# Altium footprint library Miscellaneous Connectors.PcbLib: 182 footprints (part 11 of 12)
Each footprint in its own frame and in the unit in brackets; x right, y up, seen from the top. Pads: shape width x height; smd on the part's side, far side on the other; paste and mask are expansions set on the pad; w line width, h text height; cw(c..) or ccw(c..) is an arc to the next point about the centre after c.
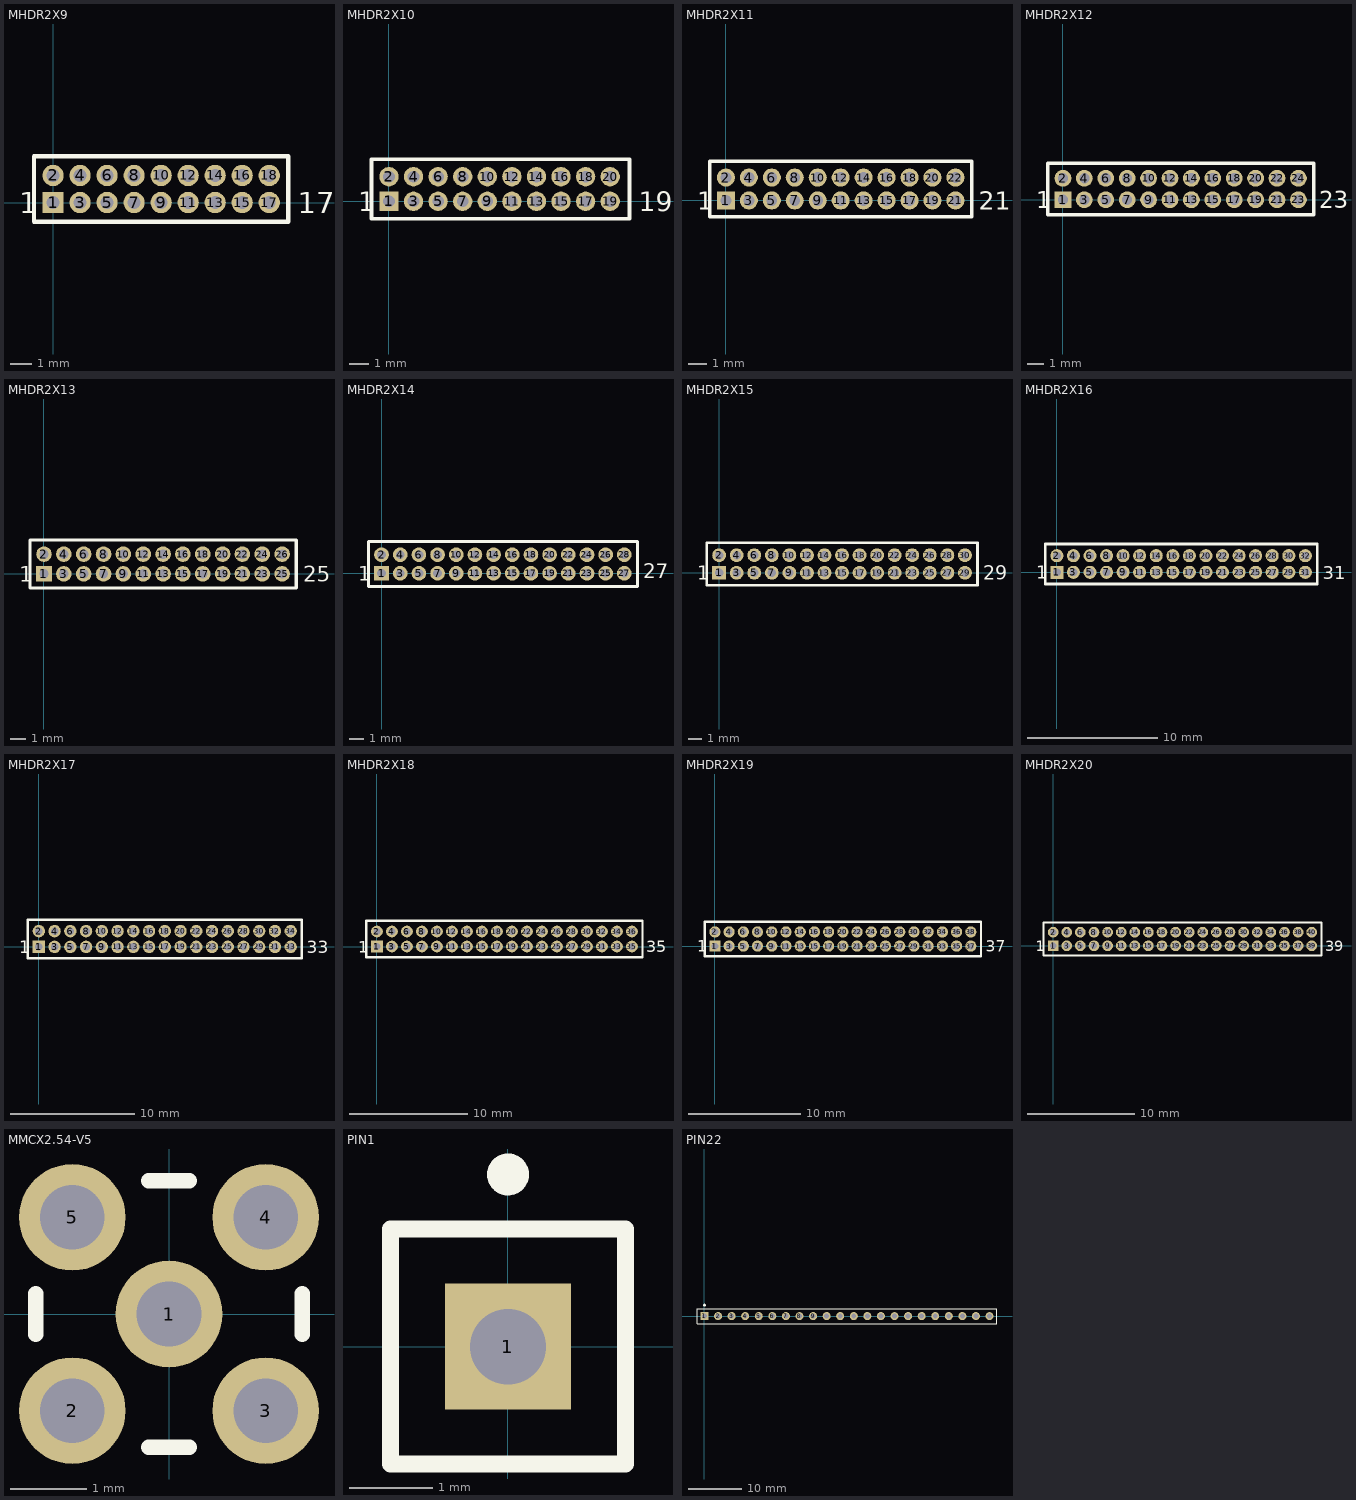
[diagram p10: the footprints below, top view; thin cyan lines are the x and y axes]

## MHDR2X9 [mm] "Connector; Header; 9x2 Position"
pads (18):
  rect 1x1 hole 0.6: 1(0,0)
  round 1 hole 0.6: 2(0,1.27) 3(1.27,0) 4(1.27,1.27) 5(2.54,0) 6(2.54,1.27) 7(3.81,0) 8(3.81,1.27) 9(5.08,0) 10(5.08,1.27) 11(6.35,0) 12(6.35,1.27) 13(7.62,0) 14(7.62,1.27) 15(8.89,0) 16(8.89,1.27) 17(10.16,0) 18(10.16,1.27)
Top Overlay:
  lines w0.2: -0.9,-0.9 11.06,-0.9 11.06,2.17 -0.9,2.17 -0.9,-0.9
  text "1" at -1.6,-0.508 h1
  text "17" at 11.5,-0.508 h1

## MHDR2X10 [mm] "Connector; Header; 10x2 Position"
pads (20):
  rect 1x1 hole 0.6: 1(0,0)
  round 1 hole 0.6: 2(0,1.27) 3(1.27,0) 4(1.27,1.27) 5(2.54,0) 6(2.54,1.27) 7(3.81,0) 8(3.81,1.27) 9(5.08,0) 10(5.08,1.27) 11(6.35,0) 12(6.35,1.27) 13(7.62,0) 14(7.62,1.27) 15(8.89,0) 16(8.89,1.27) 17(10.16,0) 18(10.16,1.27) 19(11.43,0) 20(11.43,1.27)
Top Overlay:
  lines w0.2: -0.9,-0.9 -0.9,2.17 12.43,2.17 12.43,-0.9 -0.9,-0.9
  text "19" at 12.9,-0.508 h1
  text "1" at -1.6,-0.508 h1

## MHDR2X11 [mm] "Connector; Header; 11x2 Position"
pads (22):
  rect 1x1 hole 0.6: 1(0,0)
  round 1 hole 0.6: 2(0,1.27) 3(1.27,0) 4(1.27,1.27) 5(2.54,0) 6(2.54,1.27) 7(3.81,0) 8(3.81,1.27) 9(5.08,0) 10(5.08,1.27) 11(6.35,0) 12(6.35,1.27) 13(7.62,0) 14(7.62,1.27) 15(8.89,0) 16(8.89,1.27) 17(10.16,0) 18(10.16,1.27) 19(11.43,0) 20(11.43,1.27) 21(12.7,0) 22(12.7,1.27)
Top Overlay:
  lines w0.2: -0.9,-0.9 13.6,-0.9 13.6,2.17 -0.9,2.17 -0.9,-0.9
  text "1" at -1.6,-0.508 h1
  text "21" at 14,-0.508 h1

## MHDR2X12 [mm] "Connector; Header; 12x2 Position"
pads (24):
  rect 1x1 hole 0.6: 1(0,0)
  round 1 hole 0.6: 2(0,1.27) 3(1.27,0) 4(1.27,1.27) 5(2.54,0) 6(2.54,1.27) 7(3.81,0) 8(3.81,1.27) 9(5.08,0) 10(5.08,1.27) 11(6.35,0) 12(6.35,1.27) 13(7.62,0) 14(7.62,1.27) 15(8.89,0) 16(8.89,1.27) 17(10.16,0) 18(10.16,1.27) 19(11.43,0) 20(11.43,1.27) 21(12.7,0) 22(12.7,1.27) 23(13.97,0) 24(13.97,1.27)
Top Overlay:
  lines w0.2: -0.9,-0.9 14.87,-0.9 14.87,2.17 -0.9,2.17 -0.9,-0.9
  text "1" at -1.6,-0.508 h1
  text "23" at 15.2,-0.508 h1

## MHDR2X13 [mm] "Connector; Header; 13x2 Position"
pads (26):
  rect 1x1 hole 0.6: 1(0,0)
  round 1 hole 0.6: 2(0,1.27) 3(1.27,0) 4(1.27,1.27) 5(2.54,0) 6(2.54,1.27) 7(3.81,0) 8(3.81,1.27) 9(5.08,0) 10(5.08,1.27) 11(6.35,0) 12(6.35,1.27) 13(7.62,0) 14(7.62,1.27) 15(8.89,0) 16(8.89,1.27) 17(10.16,0) 18(10.16,1.27) 19(11.43,0) 20(11.43,1.27) 21(12.7,0) 22(12.7,1.27) 23(13.97,0) 24(13.97,1.27) 25(15.24,0) 26(15.24,1.27)
Top Overlay:
  lines w0.2: -0.9,-0.9 16.14,-0.9 16.14,2.17 -0.9,2.17 -0.9,-0.9
  text "1" at -1.6,-0.508 h1
  text "25" at 16.6,-0.508 h1

## MHDR2X14 [mm] "Connector; Header; 14x2 Position"
pads (28):
  rect 1x1 hole 0.6: 1(0,0)
  round 1 hole 0.6: 2(0,1.27) 3(1.27,0) 4(1.27,1.27) 5(2.54,0) 6(2.54,1.27) 7(3.81,0) 8(3.81,1.27) 9(5.08,0) 10(5.08,1.27) 11(6.35,0) 12(6.35,1.27) 13(7.62,0) 14(7.62,1.27) 15(8.89,0) 16(8.89,1.27) 17(10.16,0) 18(10.16,1.27) 19(11.43,0) 20(11.43,1.27) 21(12.7,0) 22(12.7,1.27) 23(13.97,0) 24(13.97,1.27) 25(15.24,0) 26(15.24,1.27) 27(16.51,0) 28(16.51,1.27)
Top Overlay:
  lines w0.2: -0.9,-0.9 -0.9,2.17 17.41,2.17 17.41,-0.9 -0.9,-0.9
  text "27" at 17.8,-0.34 h1
  text "1" at -1.6,-0.508 h1

## MHDR2X15 [mm] "Connector; Header; 15x2 Position"
pads (30):
  rect 1x1 hole 0.6: 1(0,0)
  round 1 hole 0.6: 2(0,1.27) 3(1.27,0) 4(1.27,1.27) 5(2.54,0) 6(2.54,1.27) 7(3.81,0) 8(3.81,1.27) 9(5.08,0) 10(5.08,1.27) 11(6.35,0) 12(6.35,1.27) 13(7.62,0) 14(7.62,1.27) 15(8.89,0) 16(8.89,1.27) 17(10.16,0) 18(10.16,1.27) 19(11.43,0) 20(11.43,1.27) 21(12.7,0) 22(12.7,1.27) 23(13.97,0) 24(13.97,1.27) 25(15.24,0) 26(15.24,1.27) 27(16.51,0) 28(16.51,1.27) 29(17.78,0) 30(17.78,1.27)
Top Overlay:
  lines w0.2: -0.9,-0.9 18.68,-0.9 18.68,2.17 -0.9,2.17 -0.9,-0.9
  text "1" at -1.6,-0.508 h1
  text "29" at 19.1,-0.508 h1

## MHDR2X16 [mm] "Connector; Header; 16x2 Position"
pads (32):
  rect 1x1 hole 0.6: 1(0,0)
  round 1 hole 0.6: 2(0,1.27) 3(1.27,0) 4(1.27,1.27) 5(2.54,0) 6(2.54,1.27) 7(3.81,0) 8(3.81,1.27) 9(5.08,0) 10(5.08,1.27) 11(6.35,0) 12(6.35,1.27) 13(7.62,0) 14(7.62,1.27) 15(8.89,0) 16(8.89,1.27) 17(10.16,0) 18(10.16,1.27) 19(11.43,0) 20(11.43,1.27) 21(12.7,0) 22(12.7,1.27) 23(13.97,0) 24(13.97,1.27) 25(15.24,0) 26(15.24,1.27) 27(16.51,0) 28(16.51,1.27) 29(17.78,0) 30(17.78,1.27) 31(19.05,0) 32(19.05,1.27)
Top Overlay:
  lines w0.2: -0.9,-0.9 19.95,-0.9 19.95,2.17 -0.9,2.17 -0.9,-0.9
  text "1" at -1.6,-0.508 h1
  text "31" at 20.4,-0.522 h1

## MHDR2X17 [mm] "Connector; Header; 17x2 Position"
pads (34):
  rect 1x1 hole 0.6: 1(0,0)
  round 1 hole 0.6: 2(0,1.27) 3(1.27,0) 4(1.27,1.27) 5(2.54,0) 6(2.54,1.27) 7(3.81,0) 8(3.81,1.27) 9(5.08,0) 10(5.08,1.27) 11(6.35,0) 12(6.35,1.27) 13(7.62,0) 14(7.62,1.27) 15(8.89,0) 16(8.89,1.27) 17(10.16,0) 18(10.16,1.27) 19(11.43,0) 20(11.43,1.27) 21(12.7,0) 22(12.7,1.27) 23(13.97,0) 24(13.97,1.27) 25(15.24,0) 26(15.24,1.27) 27(16.51,0) 28(16.51,1.27) 29(17.78,0) 30(17.78,1.27) 31(19.05,0) 32(19.05,1.27) 33(20.32,0) 34(20.32,1.27)
Top Overlay:
  lines w0.2: -0.9,-0.9 21.22,-0.9 21.22,2.17 -0.9,2.17 -0.9,-0.9
  text "1" at -1.6,-0.508 h1
  text "33" at 21.6,-0.508 h1

## MHDR2X18 [mm] "Connector; Header; 18x2 Position"
pads (36):
  rect 1x1 hole 0.6: 1(0,0)
  round 1 hole 0.6: 2(0,1.27) 3(1.27,0) 4(1.27,1.27) 5(2.54,0) 6(2.54,1.27) 7(3.81,0) 8(3.81,1.27) 9(5.08,0) 10(5.08,1.27) 11(6.35,0) 12(6.35,1.27) 13(7.62,0) 14(7.62,1.27) 15(8.89,0) 16(8.89,1.27) 17(10.16,0) 18(10.16,1.27) 19(11.43,0) 20(11.43,1.27) 21(12.7,0) 22(12.7,1.27) 23(13.97,0) 24(13.97,1.27) 25(15.24,0) 26(15.24,1.27) 27(16.51,0) 28(16.51,1.27) 29(17.78,0) 30(17.78,1.27) 31(19.05,0) 32(19.05,1.27) 33(20.32,0) 34(20.32,1.27) 35(21.59,0) 36(21.59,1.27)
Top Overlay:
  lines w0.2: -0.9,-0.9 22.49,-0.9 22.49,2.17 -0.9,2.17 -0.9,-0.9
  text "1" at -1.6,-0.508 h1
  text "35" at 22.8,-0.501 h1

## MHDR2X19 [mm] "Connector; Header; 19x2 Position"
pads (38):
  rect 1x1 hole 0.6: 1(0,0)
  round 1 hole 0.6: 2(0,1.27) 3(1.27,0) 4(1.27,1.27) 5(2.54,0) 6(2.54,1.27) 7(3.81,0) 8(3.81,1.27) 9(5.08,0) 10(5.08,1.27) 11(6.35,0) 12(6.35,1.27) 13(7.62,0) 14(7.62,1.27) 15(8.89,0) 16(8.89,1.27) 17(10.16,0) 18(10.16,1.27) 19(11.43,0) 20(11.43,1.27) 21(12.7,0) 22(12.7,1.27) 23(13.97,0) 24(13.97,1.27) 25(15.24,0) 26(15.24,1.27) 27(16.51,0) 28(16.51,1.27) 29(17.78,0) 30(17.78,1.27) 31(19.05,0) 32(19.05,1.27) 33(20.32,0) 34(20.32,1.27) 35(21.59,0) 36(21.59,1.27) 37(22.86,0) 38(22.86,1.27)
Top Overlay:
  lines w0.2: -0.9,-0.9 23.76,-0.9 23.76,2.17 -0.9,2.17 -0.9,-0.9
  text "1" at -1.6,-0.508 h1
  text "37" at 24.2,-0.508 h1

## MHDR2X20 [mm] "Connector; Header; 20x2 Position"
pads (40):
  rect 1x1 hole 0.6: 1(0,0)
  round 1 hole 0.6: 2(0,1.27) 3(1.27,0) 4(1.27,1.27) 5(2.54,0) 6(2.54,1.27) 7(3.81,0) 8(3.81,1.27) 9(5.08,0) 10(5.08,1.27) 11(6.35,0) 12(6.35,1.27) 13(7.62,0) 14(7.62,1.27) 15(8.89,0) 16(8.89,1.27) 17(10.16,0) 18(10.16,1.27) 19(11.43,0) 20(11.43,1.27) 21(12.7,0) 22(12.7,1.27) 23(13.97,0) 24(13.97,1.27) 25(15.24,0) 26(15.24,1.27) 27(16.51,0) 28(16.51,1.27) 29(17.78,0) 30(17.78,1.27) 31(19.05,0) 32(19.05,1.27) 33(20.32,0) 34(20.32,1.27) 35(21.59,0) 36(21.59,1.27) 37(22.86,0) 38(22.86,1.27) 39(24.13,0) 40(24.13,1.27)
Top Overlay:
  lines w0.2: -0.9,-0.9 25.03,-0.9 25.03,2.17 -0.9,2.17 -0.9,-0.9
  text "1" at -1.6,-0.508 h1
  text "39" at 25.4,-0.508 h1

## MMCX2.54-V5 [mm] "Connector; RF Coaxial, MMCX, Thru-Hole; 5 Position; Vertical"
height 4.45
pads (5):
  round 1.4 hole 0.85: 1(0,0) 2(-1.27,-1.27) 3(1.27,-1.27) 4(1.27,1.27) 5(-1.27,1.27)
Top Overlay:
  lines w0.2: -1.75,-0.27 -1.75,0.27 ; -0.27,-1.75 0.27,-1.75 ; -0.27,1.75 0.27,1.75 ; 1.75,-0.27 1.75,0.27

## PCBComponent_1 [mm]

## PIN1 [mm] "Connector; Plug"
pads (1):
  rect 1.5x1.5 hole 0.9: 1(0,0)
Top Overlay:
  circle w0.25: c0,2.05 r0.125
  lines w0.2: -1.4,-1.4 -1.4,1.4 1.4,1.4 1.4,-1.4 -1.4,-1.4

## PIN22 [mm] "Connector; Edge; 22 Position"
pads (22):
  rect 1.5x1.5 hole 0.9: 1(0,0)
  round 1.5 hole 0.9: 2(2.54,0) 3(5.08,0) 4(7.62,0) 5(10.16,0) 6(12.7,0) 7(15.24,0) 8(17.78,0) 10(22.86,0) 11(25.4,0) 12(27.94,0) 13(30.48,0) 14(33.02,0) 15(35.56,0) 16(38.1,0) 17(40.64,0) 18(43.18,0) 19(45.72,0) 20(48.26,0) 21(50.8,0) 22(53.34,0)
  oval 1.51x1.5 hole 0.9: 9(20.32,0)
Top Overlay:
  circle w0.25: c0,2.05 r0.125
  lines w0.2: -1.4,-1.4 54.74,-1.4 54.74,1.4 -1.4,1.4 -1.4,-1.4